# Altium integrated library 2N2222A.IntLib: 1 symbol
Pins are listed as number, name and electrical type; pins without a type are passive.

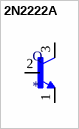
[diagram p0: symbol 2N2222A]

## 2N2222A
designator Q
Bipolar _BJT_ Transistor; MF: ON Semiconductor; MP: 2N2222A; SnapEDA_Link: https://www.snapeda.com/parts/2N2222A/ON%20Semiconductor/view-part/13923/?ref=snap; Value: *; Availability: Unavailable; Price: None; Package: TO-18 Microsemi
footprint TO127P584H533-3
pins: 1 E, 2 B, 3 C